# Altium schematic symbol library SIT9102AI-243N33E200P00000X.SchLib: 2 symbols
Pins are listed as number, name and electrical type; pins without a type are passive.

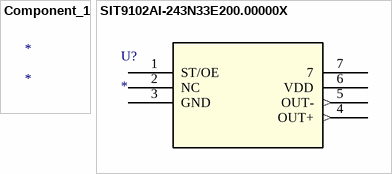
[diagram p0: symbols Component_1 to SIT9102AI-243N33E200.00000X]

## Component_1
designator *

## SIT9102AI-243N33E200.00000X
designator U?
No Description Available; Mfr_Name: SiTime; RefDes: RefDes; Type: Type
footprint SMD_AI-243N33E200.00000X_SIT
pins: 1 ST/OE, 2 NC, 3 GND (power), 4 OUT+ (out), 5 OUT- (out), 6 VDD (power), 7